# EAGLE library part MXC400XXC (library ELEC327 copy)
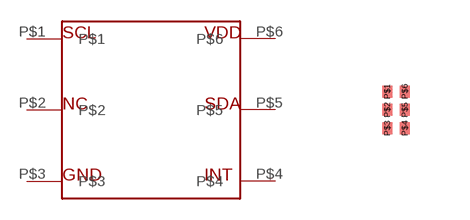
[diagram p5: symbol with the pads of MXC400XXC; footprint MXC400XXC]

Designator prefix -

## MXC400XXC  [MXC400XXC]
P$1  P$1  pas
P$2  P$2  nc
P$3  P$3  pas
P$4  P$4  pas
P$5  P$5  pas
P$6  P$6  pas

## Footprint MXC400XXC (pad centres in mm)
smd 0.25 x 0.3: P$1 0,0; P$2 0,-0.46; P$3 0,-0.92; P$4 0.44,-0.92; P$5 0.44,-0.46; P$6 0.44,0